# EAGLE library part ADAFRUIT_9X16_LED (library rpibout)
Adafruit 9x16 LED Matrix Controller
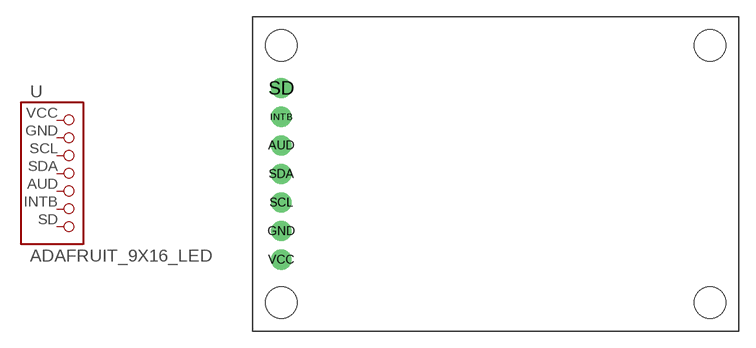
[diagram p0: symbol with the pads of ADAFRUIT_9X16_BACKPACK; footprint ADAFRUIT_9X16_BACKPACK]

Designator prefix -

## ADAFRUIT_9X16_LED  [ADAFRUIT_9X16_BACKPACK]
AUD  AUD
GND  GND  pwr
INTB  INTB
SCL  SCL
SD  SD
SDA  SDA
VCC  VCC  pwr

## Footprint ADAFRUIT_9X16_BACKPACK (pad centres in mm)
drill 1 pad 1.778: AUD 2.54,16.51; GND 2.54,8.89; INTB 2.54,19.05; SCL 2.54,11.43; SD 2.54,21.59; SDA 2.54,13.97; VCC 2.54,6.35
hole 2.8 at 2.54,25.4
hole 2.8 at 2.54,2.54
hole 2.8 at 40.64,2.54
hole 2.8 at 40.64,25.4